# Altium schematic symbol library SCH - DRIVER - LED - TI TLC59108_RGY_20.SchLib: 1 symbol
Pins are listed as number, name and electrical type; pins without a type are passive.

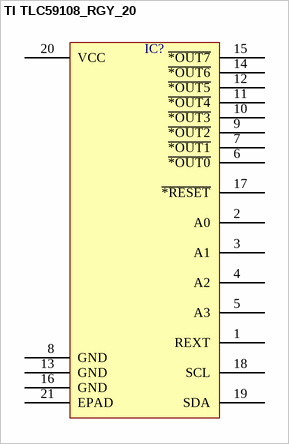
[diagram p0: symbol TI TLC59108_RGY_20]

## TI TLC59108_RGY_20
designator IC?  (value not drawn)
pins: 1 REXT, 2 A0, 3 A1, 4 A2, 5 A3, 6 ~{*OUT0}, 7 ~{*OUT1}, 8 GND, 9 ~{*OUT2}, 10 ~{*OUT3}, 11 ~{*OUT4}, 12 ~{*OUT5}, 13 GND, 14 ~{*OUT6}, 15 ~{*OUT7}, 16 GND, 17 ~{*RESET}, 18 SCL, 19 SDA, 20 VCC, 21 EPAD